# Altium integrated library MPU6050.IntLib: 1 symbol
Pins are listed as number, name and electrical type; pins without a type are passive.

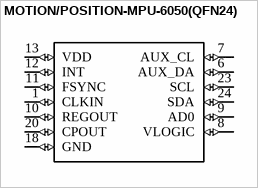
[diagram p0: symbol MOTION/POSITION-MPU-6050(QFN24)]

## MOTION/POSITION-MPU-6050(QFN24)
designator U?  (value not drawn)
Value: *
footprint QFN24G-0.5-4X4MM
pins: 1 CLKIN (io), 6 AUX_DA (io), 7 AUX_CL (io), 8 VLOGIC (io), 9 AD0 (io), 10 REGOUT (io), 11 FSYNC (io), 12 INT (io), 13 VDD (io), 18 GND (io), 20 CPOUT (io), 23 SCL (io), 24 SDA (io)